# EAGLE library part TB6552FN (library BaseApp)
http://www.digikey.com/product-detail/en/TB6552FNG%28O,EL%29/TB6552FNG%28OEL%29CT-ND/1730120
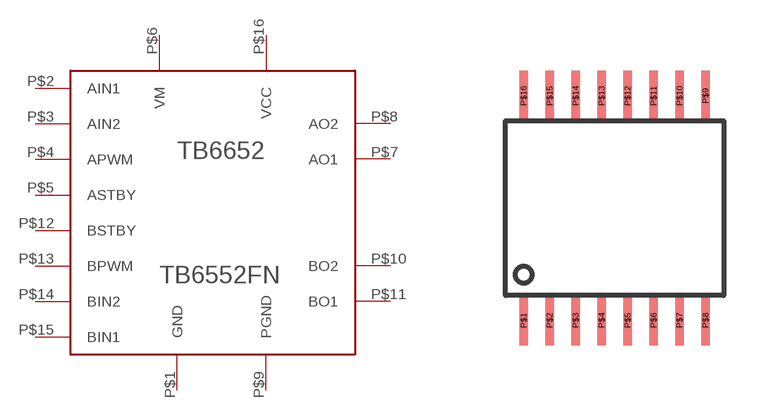
[diagram p28: symbol with the pads of 16PIN_SSOP; footprint 16PIN_SSOP]

Designator prefix TB6652

## TB6552FN  [16PIN_SSOP]
P$1  GND
P$2  AIN1
P$3  AIN2
P$4  APWM
P$5  ASTBY
P$6  VM
P$7  AO1
P$8  AO2
P$9  PGND
P$10  BO2
P$11  BO1
P$12  BSTBY
P$13  BPWM
P$14  BIN2
P$15  BIN1
P$16  VCC

## Footprint 16PIN_SSOP (pad centres in mm)
smd 0.22 x 1.25: P$1 -2.275,-2.6; P$2 -1.625,-2.6; P$3 -0.975,-2.6; P$4 -0.325,-2.6; P$5 0.325,-2.6; P$6 0.975,-2.6; P$7 1.625,-2.6; P$8 2.275,-2.6; P$9 2.275,3.02; P$10 1.625,3.02; P$11 0.975,3.02; P$12 0.325,3.02; P$13 -0.325,3.02; P$14 -0.975,3.02; P$15 -1.625,3.02; P$16 -2.275,3.02